# Altium schematic symbol library mcu_stm8.SchLib: 2 symbols
Pins are listed as number, name and electrical type; pins without a type are passive.

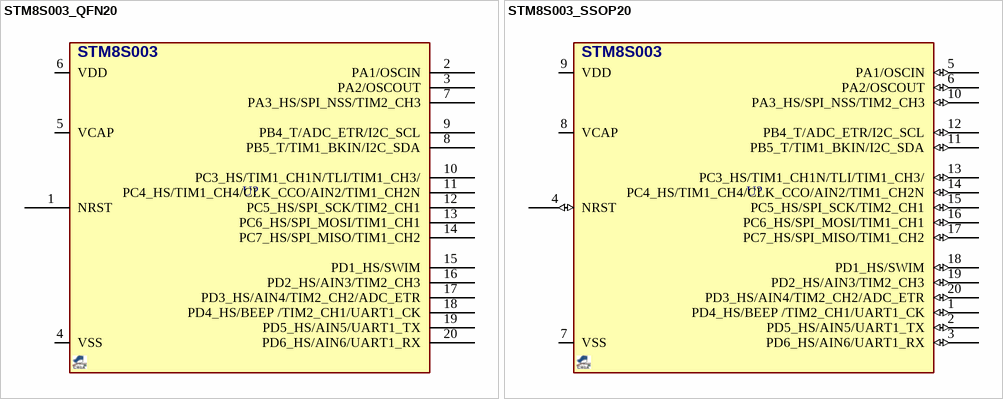
[diagram p0: symbols STM8S003_QFN20 to STM8S003_SSOP20]

## STM8S003_QFN20
designator U?, comment STM8S003  (value not drawn)
MCU, STM8 MCU 8-bit, 8KB FLASH, 1KB SRAM; DESC: 128b EEPROM, 10-bit ADC, 3timers, UART, SPI, I2C; MANF: ST; MANF_P#: STM8S003F3U6; PARAM2: 2.95~5.5VCC, 16MHz, 10-bit ADC; PARAM: 8KB FLASH, 1KB SRAM, -40~85oC; PRICE: 0.3$; VALUE: STM8S003
footprint QFN50_20_3X3 (UFQFPN20, pitch: 0.5mm, 3x3mm)
pins: 1 NRST, 2 PA1/OSCIN, 3 PA2/OSCOUT, 4 VSS, 5 VCAP, 6 VDD, 7 PA3_HS/SPI_NSS/TIM2_CH3, 8 PB5_T/TIM1_BKIN/I2C_SDA, 9 PB4_T/ADC_ETR/I2C_SCL, 10 PC3_HS/TIM1_CH1N/TLI/TIM1_CH3/, 11 PC4_HS/TIM1_CH4/CLK_CCO/AIN2/TIM1_CH2N, 12 PC5_HS/SPI_SCK/TIM2_CH1, 13 PC6_HS/SPI_MOSI/TIM1_CH1, 14 PC7_HS/SPI_MISO/TIM1_CH2, 15 PD1_HS/SWIM, 16 PD2_HS/AIN3/TIM2_CH3, 17 PD3_HS/AIN4/TIM2_CH2/ADC_ETR, 18 PD4_HS/BEEP /TIM2_CH1/UART1_CK, 19 PD5_HS/AIN5/UART1_TX, 20 PD6_HS/AIN6/UART1_RX

## STM8S003_SSOP20
designator U?, comment STM8S003  (value not drawn)
MCU, STM8 MCU 8-bit, 8KB FLASH, 1KB SRAM; DESC: 128b EEPROM, 10-bit ADC, 3timers, UART, SPI, I2C; MANF: ST; MANF_P#: STM8S003F3P6; PARAM2: 2.95~5.5VCC, 16MHz, 10-bit ADC; PARAM: 8KB FLASH, 1KB SRAM, -40~85oC; PRICE: 0.3$; VALUE: STM8S003
footprint SOG65_20 (PW TSSOP (TI), MO-153-AC (JEDEC), 20Lead, pitch: 0.65mm, 6.5x4.4x1.2mm)
pins: 1 PD4_HS/BEEP /TIM2_CH1/UART1_CK (io), 2 PD5_HS/AIN5/UART1_TX (io), 3 PD6_HS/AIN6/UART1_RX (io), 4 NRST (io), 5 PA1/OSCIN (io), 6 PA2/OSCOUT (io), 7 VSS (power), 8 VCAP (power), 9 VDD (power), 10 PA3_HS/SPI_NSS/TIM2_CH3 (io), 11 PB5_T/TIM1_BKIN/I2C_SDA (io), 12 PB4_T/ADC_ETR/I2C_SCL (io), 13 PC3_HS/TIM1_CH1N/TLI/TIM1_CH3/ (io), 14 PC4_HS/TIM1_CH4/CLK_CCO/AIN2/TIM1_CH2N (io), 15 PC5_HS/SPI_SCK/TIM2_CH1 (io), 16 PC6_HS/SPI_MOSI/TIM1_CH1 (io), 17 PC7_HS/SPI_MISO/TIM1_CH2 (io), 18 PD1_HS/SWIM (io), 19 PD2_HS/AIN3/TIM2_CH3 (io), 20 PD3_HS/AIN4/TIM2_CH2/ADC_ETR (io)